# Altium schematic symbol library Archim.SCHLIB: 82 symbols
Pins are listed as number, name and electrical type; pins without a type are passive.

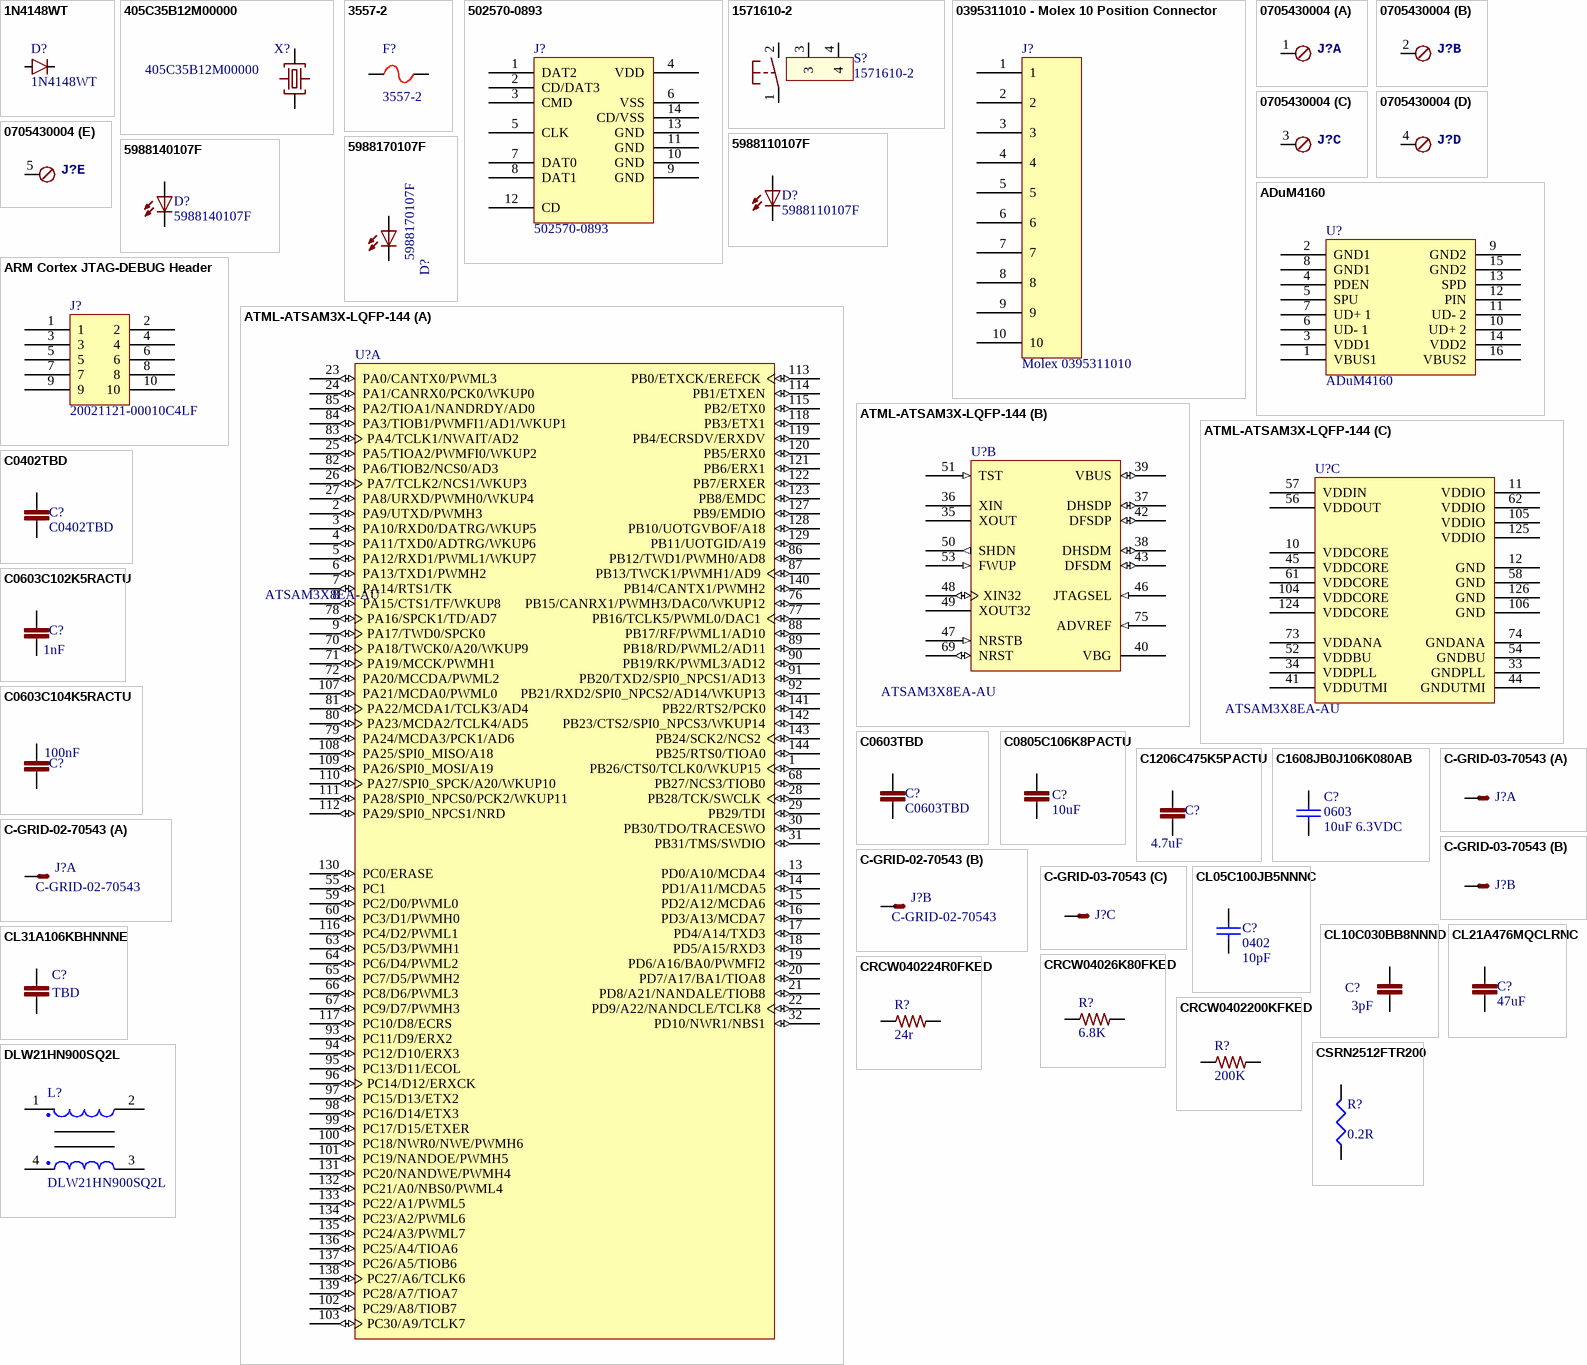
[diagram p0: symbols 1N4148WT to DLW21HN900SQ2L]

## 1N4148WT
designator D?
DIODE SOD523; LastRevisionNote: ImportComponents; Published: 23-Apr-2014; Publisher: UltiMachine; LastRevisionDate: 23-Apr-2014; Value: 1N4148WT
footprint SOD523
pins: A, C

## 405C35B12M00000
designator X?
Crystal 12MHz ±30ppm (Tol) ±50ppm (Stability) 13pF FUND 50Ohm; LastRevisionNote: ImportComponents; Published: 23-Apr-2014; Publisher: UltiMachine; LastRevisionDate: 23-Apr-2014; ManufacturerPartNumber: 405C35B12M00000
footprint CRYS320500
pins: 1 C1, 2 GND, 3 C2, 4 GND

## 3557-2
designator F?
FUSE PTH ATO; LastRevisionNote: ImportComponents; Published: 23-Apr-2014; Publisher: UltiMachine; LastRevisionDate: 23-Apr-2014; ManufacturerPartNumber: 3557-2
footprint 3557
pins: 1, 2

## 502570-0893
designator J?
microSD 502570-0893 Molex Part
footprint 502570-0893 - Molex SD (Molex SD Card Footprint 502570-0893)
pins: 1 DAT2, 2 CD/DAT3, 3 CMD, 4 VDD, 5 CLK, 6 VSS, 7 DAT0, 8 DAT1, 9 GND, 10 GND, 11 GND, 12 CD, 13 GND, 14 CD/VSS (power)

## 1571610-2
designator S?
SWTCH Momentary Washable; Manufacturer: TE; LastRevisionNote: Import; ComponentLink1URL: http://www.te.com/commerce/DocumentDelivery/DDEController?Action=srchrtrv&DocNm=1571610&DocType=Customer+Drawing&DocLang=English; ComponentLink1Description: Datasheet for B3F-31XX; Published: 23-Apr-2014; Publisher: UltiMachine; LastRevisionDate: 23-Apr-2014; ManufacturerPartNumber: 1571610-2; Supplier 1: Mouser; Supplier Part Number 1: 506-1571610-2
footprint B3F-31XX
pins: 1 P, 2 S, 3 (power), 4 (power)

## 0395311010 - Molex 10 Position Connector
designator J?, comment Molex 0395311010
MSBTV10 10 port connector same as RAMBo; Manufacture: Molex; Mounting Type: Through Hole; Part Number: 0395311010; Datasheet: http://www.molex.com/pdm_docs/sd/395311002_sd.pdf; Status: Active; Pin Count: 10 , 5.08mm pitch; Height: *; Lead Free: YES; Cost: 2.46000
footprint MSTBV10
pins: 1, 2, 3, 4, 5, 6, 7, 8, 9, 10

## 0705430004
designator J?  (value not drawn)
5pos Latching 2.54mm; LastRevisionNote: ImportComponents; Published: 23-Apr-2014; Publisher: UltiMachine; LastRevisionDate: 23-Apr-2014; ManufacturerPartNumber: 0705430004
footprint 5POL254
part A pins: 1
part B pins: 2 1
part C pins: 3 1
part D pins: 4 1
part E pins: 5 1

## 5988110107F
designator D?
LED 0805 Red; LastRevisionNote: ImportComponents; Published: 23-Apr-2014; Publisher: UltiMachine; LastRevisionDate: 23-Apr-2014; VALUE: 5988110107F
footprint LED2012120
pins: A, C

## 5988140107F
designator D?
LED 0805 Yellow; LastRevisionNote: ImportComponents; Published: 23-Apr-2014; Publisher: UltiMachine; LastRevisionDate: 23-Apr-2014; VALUE: 5988140107F
footprint LED2012120
pins: A, C

## 5988170107F
designator D?
LED 0805 Green; LastRevisionNote: ImportComponents; Published: 23-Apr-2014; Publisher: UltiMachine; LastRevisionDate: 23-Apr-2014; VALUE: 5988170107F
footprint LED2012120
pins: A, C

## ADuM4160
designator U?
USB Opto Isolator
footprint ADuM4160 (SOIC, 16-Leads, Body 10.30x7.50mm, Pitch 1.27mm, IPC Medium Density)
pins: 1 VBUS1, 2 GND1, 3 VDD1, 4 PDEN, 5 SPU, 6 UD- 1, 7 UD+ 1, 8 GND1, 9 GND2, 10 UD+ 2, 11 UD- 2, 12 PIN, 13 SPD, 14 VDD2, 15 GND2, 16 VBUS2

## ARM Cortex JTAG-DEBUG Header
designator J?, comment 20021121-00010C4LF
footprint FTSH-105-XX-X-DV (1.27mm pitch, 10 pin, terminal strip; vertical, SMT)
pins: 1, 2, 3, 4, 5, 6, 7, 8, 9, 10

## ATML-ATSAM3X-LQFP-144
designator U?, comment ATSAM3X8EA-AU
Atmel
footprint LQFP144_N (Thin QFP, 144-Leads, Body 20x20mm, Pitch 0.5mm, IPC Medium Density)
part A pins: 1 PB26/CTS0/TCLK0/WKUP15 (io), 2 PA9/UTXD/PWMH3 (io), 3 PA10/RXD0/DATRG/WKUP5 (io), 4 PA11/TXD0/ADTRG/WKUP6 (io), 5 PA12/RXD1/PWML1/WKUP7 (io), 6 PA13/TXD1/PWMH2 (io), 7 PA14/RTS1/TK (io), 8 PA15/CTS1/TF/WKUP8 (io), 9 PA17/TWD0/SPCK0 (io), 13 PD0/A10/MCDA4 (io), 14 PD1/A11/MCDA5 (io), 15 PD2/A12/MCDA6 (io), 16 PD3/A13/MCDA7 (io), 17 PD4/A14/TXD3 (io), 18 PD5/A15/RXD3 (io), 19 PD6/A16/BA0/PWMFI2 (io), 20 PD7/A17/BA1/TIOA8 (io), 21 PD8/A21/NANDALE/TIOB8 (io), 22 PD9/A22/NANDCLE/TCLK8 (io), 23 PA0/CANTX0/PWML3 (io), 24 PA1/CANRX0/PCK0/WKUP0 (io), 25 PA5/TIOA2/PWMFI0/WKUP2 (io), 26 PA7/TCLK2/NCS1/WKUP3 (io), 27 PA8/URXD/PWMH0/WKUP4 (io), 28 PB28/TCK/SWCLK (io), 29 PB29/TDI (io), 30 PB30/TDO/TRACESWO (io), 31 PB31/TMS/SWDIO (io), 32 PD10/NWR1/NBS1 (io), 55 PC1 (io), 59 PC2/D0/PWML0 (io), 60 PC3/D1/PWMH0 (io), 63 PC5/D3/PWMH1 (io), 64 PC6/D4/PWML2 (io), 65 PC7/D5/PWMH2 (io), 66 PC8/D6/PWML3 (io), 67 PC9/D7/PWMH3 (io), 68 PB27/NCS3/TIOB0 (io), 70 PA18/TWCK0/A20/WKUP9 (io), 71 PA19/MCCK/PWMH1 (io), 72 PA20/MCCDA/PWML2 (io), 76 PB15/CANRX1/PWMH3/DAC0/WKUP12 (io), 77 PB16/TCLK5/PWML0/DAC1 (io), 78 PA16/SPCK1/TD/AD7 (io), 79 PA24/MCDA3/PCK1/AD6 (io), 80 PA23/MCDA2/TCLK4/AD5 (io), 81 PA22/MCDA1/TCLK3/AD4 (io), 82 PA6/TIOB2/NCS0/AD3 (io), 83 PA4/TCLK1/NWAIT/AD2 (io), 84 PA3/TIOB1/PWMFI1/AD1/WKUP1 (io), 85 PA2/TIOA1/NANDRDY/AD0 (io), 86 PB12/TWD1/PWMH0/AD8 (io), 87 PB13/TWCK1/PWMH1/AD9 (io), 88 PB17/RF/PWML1/AD10 (io), 89 PB18/RD/PWML2/AD11 (io), 90 PB19/RK/PWML3/AD12 (io), 91 PB20/TXD2/SPI0_NPCS1/AD13 (io), 92 PB21/RXD2/SPI0_NPCS2/AD14/WKUP13 (io), 93 PC11/D9/ERX2 (io), 94 PC12/D10/ERX3 (io), 95 PC13/D11/ECOL (io), 96 PC14/D12/ERXCK (io), 97 PC15/D13/ETX2 (io), 98 PC16/D14/ETX3 (io), 99 PC17/D15/ETXER (io), 100 PC18/NWR0/NWE/PWMH6 (io), 101 PC19/NANDOE/PWMH5 (io), 102 PC29/A8/TIOB7 (io), 103 PC30/A9/TCLK7 (io), 107 PA21/MCDA0/PWML0 (io), 108 PA25/SPI0_MISO/A18 (io), 109 PA26/SPI0_MOSI/A19 (io), 110 PA27/SPI0_SPCK/A20/WKUP10 (io), 111 PA28/SPI0_NPCS0/PCK2/WKUP11 (io), 112 PA29/SPI0_NPCS1/NRD (io), 113 PB0/ETXCK/EREFCK (io), 114 PB1/ETXEN (io), 115 PB2/ETX0 (io), 116 PC4/D2/PWML1 (io), 117 PC10/D8/ECRS (io), 118 PB3/ETX1 (io), 119 PB4/ECRSDV/ERXDV (io), 120 PB5/ERX0 (io), 121 PB6/ERX1 (io), 122 PB7/ERXER (io), 123 PB8/EMDC (io), 127 PB9/EMDIO (io), 128 PB10/UOTGVBOF/A18 (io), 129 PB11/UOTGID/A19 (io), 130 PC0/ERASE (io), 131 PC20/NANDWE/PWMH4 (io), 132 PC21/A0/NBS0/PWML4 (io), 133 PC22/A1/PWML5 (io), 134 PC23/A2/PWML6 (io), 135 PC24/A3/PWML7 (io), 136 PC25/A4/TIOA6 (io), 137 PC26/A5/TIOB6 (io), 138 PC27/A6/TCLK6 (io), 139 PC28/A7/TIOA7 (io), 140 PB14/CANTX1/PWMH2 (io), 141 PB22/RTS2/PCK0 (io), 142 PB23/CTS2/SPI0_NPCS3/WKUP14 (io), 143 PB24/SCK2/NCS2 (io), 144 PB25/RTS0/TIOA0 (io)
part B pins: 35 XOUT "Main Oscillator Output", 36 XIN "Main Oscillator Input", 37 DHSDP (io) "USB High Speed Data +", 38 DHSDM (io) "USB High Speed Data -", 39 VBUS (io) "USB Bus Power Measurement Mini Host/Device", 40 VBG "Bias Voltage Reference", 42 DFSDP (io) "USB Full Speed Data +", 43 DFSDM (io) "USB Full Speed Data -", 46 JTAGSEL (in) "JTAG Selection", 47 NRSTB (in) "Asynchronous Microcontroller Reset", 48 XIN32 (io) "Slow Clock Oscillator Input", 49 XOUT32 "Slow Clock Oscillator Output", 50 SHDN (out) "Shut-Down Control", 51 TST (in) "Test Mode Select", 53 FWUP (in) "Force Wake-up Input", 69 NRST (io) "Microcontroller Reset", 75 ADVREF (in) "ADC and DAC Reference"
part C pins: 10 VDDCORE (power) "Core Chip Power Supply", 11 VDDIO (power) "Peripherals I/O Lines Power Supply", 12 GND (power) "Ground", 33 GNDPLL (power) "PLL A, UPLL and Oscillator Ground", 34 VDDPLL (power) "PLL A, UPLL and Oscillator Power Supply", 41 VDDUTMI (power) "USB UTMI+ Interface Power Supply", 44 GNDUTMI (power) "USB UTMI+ Interface Ground", 45 VDDCORE (power) "Core Chip Power Supply", 52 VDDBU (power) "Backup I/O Lines Power Supply", 54 GNDBU (power) "Backup Ground", 56 VDDOUT (power) "Voltage Regulator Output", 57 VDDIN (power) "Voltage Regulator, ADC and DAC Power", 58 GND (power) "Ground", 61 VDDCORE (power) "Core Chip Power Supply", 62 VDDIO (power) "Peripherals I/O Lines Power Supply", 73 VDDANA (power) "ADC and DAC Analog Power Supply", 74 GNDANA (power) "ADC and DAC Analog Ground", 104 VDDCORE (power) "Core Chip Power Supply", 105 VDDIO (power) "Peripherals I/O Lines Power Supply", 106 GND (power) "Ground", 124 VDDCORE (power) "Core Chip Power Supply", 125 VDDIO (power) "Peripherals I/O Lines Power Supply", 126 GND (power) "Ground"

## C0402TBD
designator C?
Capacitor Non Polarized; LastRevisionNote: ImportComponents; Published: 23-Apr-2014; Publisher: UltiMachine; LastRevisionDate: 23-Apr-2014; VALUE: C0402TBD
footprint C0402
signal-integrity model Model Name (Model Description)
simulation model Model Name (Model Description)
pins: 1, 2

## C0603C102K5RACTU
designator C?, comment 1nF
CAP CER 0603  1nF 50v 10% X7R; ManufacturerPartNumber: C0603C102K5RACTU; LastRevisionNote: ImportComponents; Published: 23-Apr-2014; Publisher: UltiMachine; VALUE: 1nF; LastRevisionDate: 23-Apr-2014
footprint C0603
signal-integrity model Model Name (Model Description)
simulation model Model Name (Model Description)
pins: 1, 2

## C0603C104K5RACTU
designator C?, comment 100nF
CAP CER 0603 100nF 50V 10% X7R; ManufacturerPartNumber: C0603C104K5RACTU; LastRevisionNote: ImportComponents; Published: 23-Apr-2014; Publisher: UltiMachine; LastRevisionDate: 23-Apr-2014; VALUE: 100nF
footprint C0603
signal-integrity model Model Name (Model Description)
simulation model Model Name (Model Description)
pins: 1, 2

## C0603TBD
designator C?
Capacitor Non Polarized; LastRevisionNote: ImportComponents; Published: 23-Apr-2014; Publisher: UltiMachine; LastRevisionDate: 23-Apr-2014; VALUE: C0603TBD
footprint C0603
signal-integrity model Model Name (Model Description)
simulation model Model Name (Model Description)
pins: 1, 2

## C0805C106K8PACTU
designator C?, comment 10uF
CAP CER 0805 10uF 10V 10% X5R; ManufacturerPartNumber: C0805C106K8PACTU; LastRevisionNote: ImportComponents; Published: 23-Apr-2014; Publisher: UltiMachine; LastRevisionDate: 23-Apr-2014; VALUE: 10uF
footprint C0805
signal-integrity model Model Name (Model Description)
simulation model Model Name (Model Description)
pins: 1, 2

## C1206C475K5PACTU
designator C?, comment 4.7uF
CAP CER 1206 4.7uF 50V 10% X5R; ManufacturerPartNumber: C1206C475K5PACTU; LastRevisionNote: ImportComponents; Published: 23-Apr-2014; Publisher: UltiMachine; LastRevisionDate: 23-Apr-2014; VALUE: 4.7uF
signal-integrity model Model Name (Model Description)
simulation model Model Name (Model Description)
footprint C1206
pins: 1, 2

## C1608JB0J106K080AB
designator C?, comment 0603  value 10uF 6.3VDC
CAP CER 10UF 6.3V 10% JB 0603; MFR Part #: C1608JB0J106K080AB; MFR: TDK; Voltage: 6.3VDC; Published: 10 - Dec - 2014; LatestRevisionDate: 10 - Dec - 2014; Component Type: Chip Capacitor; Part Description: CAP CER 10UF 6.3V 10% JB 0603; Mounting Type: SMT 0603; Datasheet: http://www.tdk.com/pdf/TDKMLCCCapRange.pdf; Height: 0.9mm; Tolerance: 10%; Digikey #: 445-11185-1-ND; PackageReference: 0402
simulation model CAP (Semiconductor Capacitor)
signal-integrity model Cap Semi
footprint C0603
pins: 1, 2

## C-GRID-02-70543
designator J?
Connector 2pos; LastRevisionNote: ImportComponents; Published: 23-Apr-2014; Publisher: UltiMachine; LastRevisionDate: 23-Apr-2014
footprint 70543-02
part A pins: 1 S
part B pins: 2 S

## C-GRID-03-70543
designator J?, comment Molex 70543-03  (value not drawn)
Connector 2pos 2.54mm locking; LastRevisionNote: ImportComponents; Published: 23-Apr-2014; Publisher: UltiMachine; LastRevisionDate: 23-Apr-2014
footprint 70543-03
part A pins: 1 S
part B pins: 2 S
part C pins: 3 S

## CL05C100JB5NNNC
designator C?, comment 0402  value 10pF
CAP CER 10PF 50V 5% NP0 0402; MFR Part #: CL05C100JB5NNNC; MFR: Samsung; Tolerance: 10%; Voltage: 50VDC; Published: 10 - Dec - 2014; LatestRevisionDate: 10 - Dec - 2014; LatestRevisionNote: Ultimachine Footprint Added; Publisher: Ultimachine; Component Type: Chip Capacitor; Part Description: CAP CER 10PF 50V 5% NP0 0402; Mounting Type: SMT 0402; Datasheet: http://www.samsungsem.com/kr/front/downloadcms.do?path=/kr/support/product-search/mlcc/__icsFiles/afieldfile/2014/11/05&fileName=S_CL05C100JB5NNNC.pdf; Height: 0.55mm; PackageReference: 0402
simulation model CAP (Semiconductor Capacitor)
signal-integrity model Cap Semi
footprint C0402
pins: 1, 2

## CL10C030BB8NNND
designator C?, comment 3pF
CAP CER 3PF 50V NP0 0603; ManufacturerPartNumber: CL10C030BB8NNND; LastRevisionNote: ImportComponents; Published: 23-Apr-2014; Publisher: UltiMachine; VALUE: 3pF; LastRevisionDate: 23-Apr-2014
footprint C0603
signal-integrity model Model Name (Model Description)
simulation model Model Name (Model Description)
pins: 1, 2

## CL21A476MQCLRNC
designator C?, comment 47uF
CAP CER 47UF 6.3V 20% X5R 0805; Manufacturer: Samsung; ManufacturerPartNumber: CL21A476MQCLRNC; LastRevisionNote: ImportComponents; Published: 10 - may 2015; Publisher: UltiMachine; LastRevisionDate: 10 may 2015; VALUE: 47uF
footprint C0805
signal-integrity model Model Name (Model Description)
simulation model Model Name (Model Description)
pins: 1, 2

## CL31A106KBHNNNE
designator C?, comment TBD
CAP CER 10UF 50V 10% X5R 1206; Manufacturer: Samsung; ManufacturerPartNumber: CL31A106KBHNNNE; LastRevisionNote: ImportComponents; Published: 25-mar-2015; Publisher: UltiMachine; LastRevisionDate: 25-mar-2015; VALUE: TBD
signal-integrity model Model Name (Model Description)
simulation model Model Name (Model Description)
footprint C1206
pins: 1, 2

## CRCW04026K80FKED
designator R?, comment 6.8K
RES SMD 6.8K OHM 1% 1/16W 0402; Manufacturer: Vishay Dale; ManufacturerPartNumber: CRCW04026K80FKED; LastRevisionNote: ImportComponents; Published: 23-Apr-2014; Publisher: UltiMachine; LastRevisionDate: 23-Apr-2014; Height: 0.4mm; VALUE: 6.8K
footprint R0402
signal-integrity model Model Name (Model Description)
simulation model Model Name (Model Description)
pins: 1, 2

## CRCW040224R0FKED
designator R?, comment 24r
Res Thick Film 0402 24 Ohm 1% 0.063W; ManufacturerPartNumber: CRCW0402200KFKED; LastRevisionNote: ImportComponents; Published: 23-Apr-2014; Publisher: UltiMachine; LastRevisionDate: 23-Apr-2014; VALUE: 24r
footprint R0402
signal-integrity model Model Name (Model Description)
simulation model Model Name (Model Description)
pins: 1, 2

## CRCW0402200KFKED
designator R?, comment 200K
RES 0402 200k 63mW 1%; ManufacturerPartNumber: CRCW0402200KFKED; LastRevisionNote: ImportComponents; Published: 23-Apr-2014; Publisher: UltiMachine; LastRevisionDate: 23-Apr-2014; VALUE: 200K
footprint R0402
signal-integrity model Model Name (Model Description)
simulation model Model Name (Model Description)
pins: 1, 2

## CSRN2512FTR200
designator R?, comment value 0.2R  (hidden comment: 2512)
RES SMD 0.2 OHM 1% 2W 2512; MFR: Stackpole ELectronics Inc; MFR #: CSRN2512FTR100; PackageReference: 2512; Digikey #: CSRN2512FTR100TR-ND; PDF: http://www.seielect.com/catalog/SEI-CSR_CSRN.pdf
simulation model RESISTOR (Resistor)
signal-integrity model Res
footprint 2512R-0.55 (2512 Resistor 6.35mm x 3.2mm x 0.55mm)
pins: 1, 2

## DLW21HN900SQ2L
designator L?
Common Mode Chokes Dual 90Ohm 100MHz 330mA 350mOhm DCR SMD
footprint DLW21HN900SQ2L
pins: 1 (power), 2 (power), 3 (power), 4 (power)

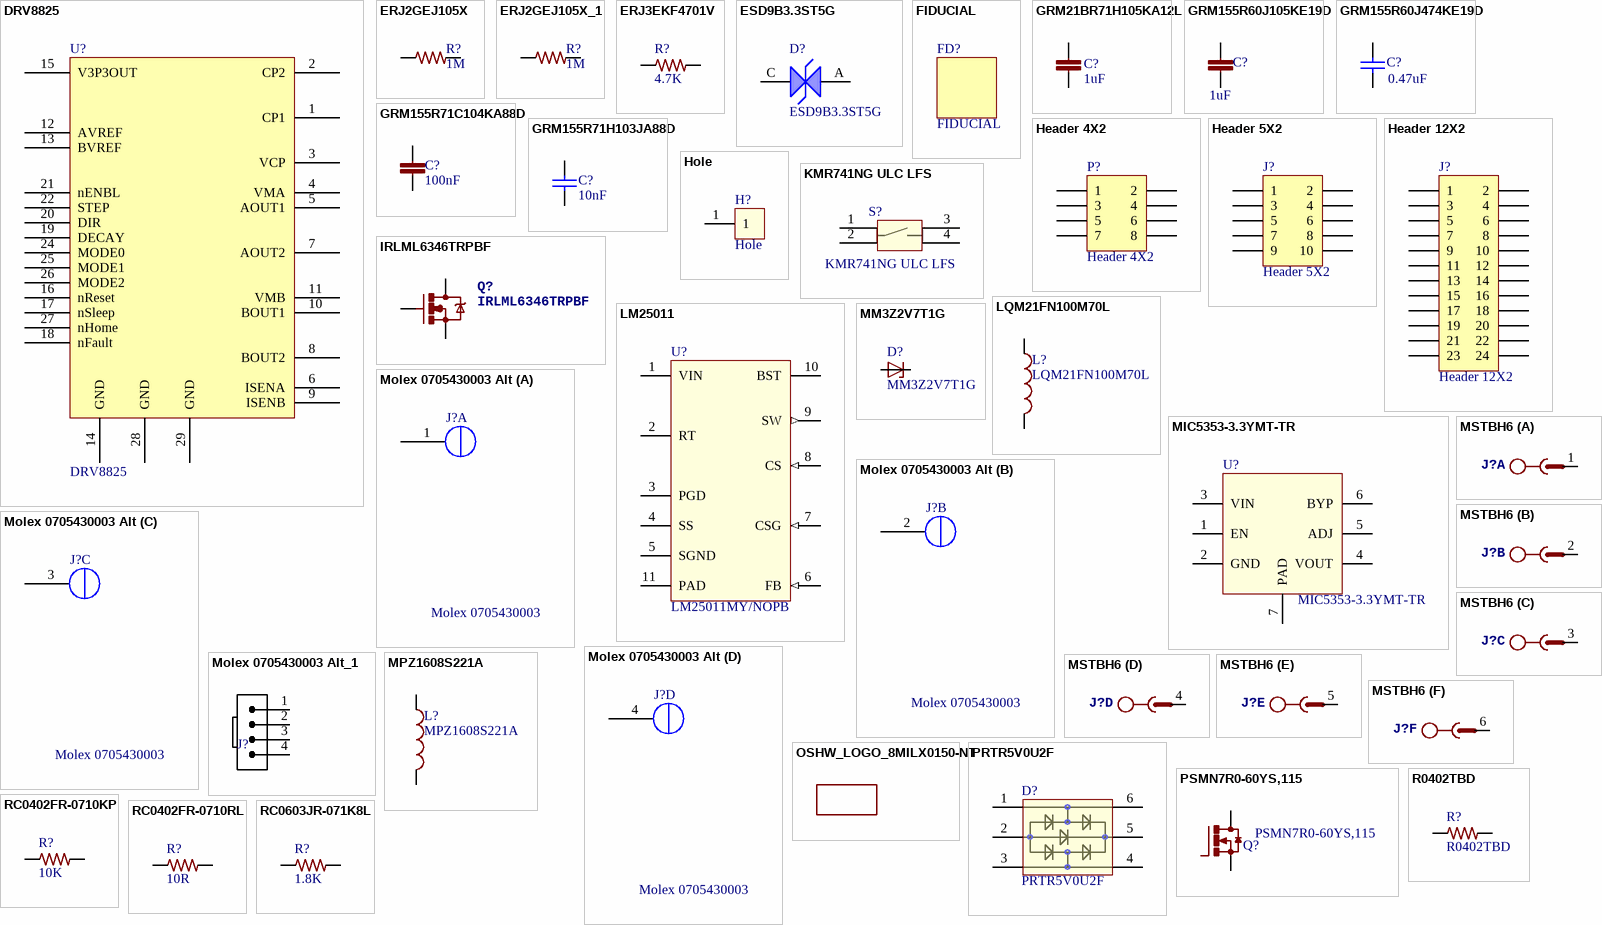
[diagram p1: symbols DRV8825 to RC0603JR-071K8L]

## DRV8825
designator U?
DRV8825 Ti Stepper Driver; Part Number: DRV8825PWPR; Manufacture: Texas Instruments; Mountining Type: SMD - Ti PowerPAD Package; Voltage: 8.2-45VDC; Cost (1000 qty): 2.25; Status: In-Production; Pins: 28 Pins and one Exposed Pad; Datasheet: http://www.ti.com/lit/gpn/drv8825; Height: 1.2mm; Tolerance: N/A; Type: Stepper Driver - Integrated Circuit; Lead Free: YES
footprint DRV8825PWPR (PowerPAD (HTSSOP) - PWP)
pins: 1 CP1, 2 CP2, 3 VCP, 4 VMA, 5 AOUT1, 6 ISENA, 7 AOUT2, 8 BOUT2, 9 ISENB, 10 BOUT1, 11 VMB, 12 AVREF, 13 BVREF, 14 GND, 15 V3P3OUT, 16 nReset, 17 nSleep, 18 nFault, 19 DECAY, 20 DIR, 21 nENBL, 22 STEP, 23 NC hidden, 24 MODE0, 25 MODE1, 26 MODE2, 27 nHome, 28 GND, 29 GND

## ERJ2GEJ105X
designator R?, comment 1M
RES 0402 1M 100mW 5%; ManufacturerPartNumber: ERJ2GEJ105X; LastRevisionNote: ImportComponents; Published: 23-Apr-2014; Publisher: UltiMachine; LastRevisionDate: 23-Apr-2014; VALUE: 1M
footprint R0402
signal-integrity model Model Name (Model Description)
simulation model Model Name (Model Description)
pins: 1, 2

## ERJ2GEJ105X_1
designator R?, comment 1M
RES 0402 1M 100mW 5%; ManufacturerPartNumber: ERJ2GEJ105X; LastRevisionNote: ImportComponents; Published: 23-Apr-2014; Publisher: UltiMachine; LastRevisionDate: 23-Apr-2014; VALUE: 1M
footprint R0402
signal-integrity model Model Name (Model Description)
simulation model Model Name (Model Description)
pins: 1, 2

## ERJ3EKF4701V
designator R?, comment 4.7K
RES 0603 4.7K 100mW 1%; ManufacturerPartNumber: ERJ3EKF4701V; LastRevisionNote: ImportComponents; Published: 23-Apr-2014; Publisher: UltiMachine; LastRevisionDate: 23-Apr-2014; VALUE: 4.7K
footprint R0603
signal-integrity model Model Name (Model Description)
simulation model Model Name (Model Description)
pins: 1, 2

## ESD9B3.3ST5G
designator D?
11.5 V 15 pF SMT Transient Voltage Suppressor - SOD-923
footprint SOD923-100X40-2N (SODFL, 2-Leads, Body 0.60x1.00mm, IPC Medium Density)
pins: A (power), C (power)

## FIDUCIAL
designator FD?
footprint FIDUCIAL-1X2
footprint FIDUCIAL-2x3-Panel

## GRM21BR71H105KA12L
designator C?, comment 1uF
CAP CER 0805 1uF 50V 10% X7R; ManufacturerPartNumber: GRM21BR71H105KA12L; LastRevisionNote: ImportComponents; Published: 23-Apr-2014; Publisher: UltiMachine; LastRevisionDate: 23-Apr-2014; VALUE: 1uF
footprint C0805
signal-integrity model Model Name (Model Description)
simulation model Model Name (Model Description)
pins: 1, 2

## GRM155R60J105KE19D
designator C?, comment 1uF
CAP CER 0402 1uF 6.3V 10% X5R; ManufacturerPartNumber: GRM155R60J105KE19D; LastRevisionNote: ImportComponents; Published: 23-Apr-2014; Publisher: UltiMachine; LastRevisionDate: 23-Apr-2014; VALUE: 1uF
footprint C0402
signal-integrity model Model Name (Model Description)
simulation model Model Name (Model Description)
pins: 1, 2

## GRM155R60J474KE19D
designator C?, comment value 0.47uF  (hidden comment: 0402)
0.47uF 6.3v C0402 - GRM155R60J474KE19D; MFR: Murata; Part Description: CAP CER 0.47UF 6.3V 10% X5R 0402; Tolerance: 10%; Voltage: 6.3VDC; Published: 10 - Dec - 2014; LatestRevisionDate: 10 - Dec - 2014; LatestRevisionNote: Ultimachine Footprint Added; Publisher: Ultimachine; Component Type: Chip Capacitor; MFR Part #: GRM155R60J474KE19D; Mounting Type: SMT 0402; Datasheet: http://search.murata.co.jp/Ceramy/image/img/A01X/G101/ENG/GRM155R60J474KE19-01.pdf; Height: 0.5 ±0.05mm; PackageReference: 0402
simulation model CAP (Semiconductor Capacitor)
signal-integrity model Cap Semi
footprint C0402
pins: 1, 2

## GRM155R71C104KA88D
designator C?, comment 100nF
CAP CER 0402 100nF 16V 10% X7R; ManufacturerPartNumber: GRM155R71C104KA88D; LastRevisionNote: ImportComponents; Published: 23-Apr-2014; Publisher: UltiMachine; VALUE: 100nF; LastRevisionDate: 23-Apr-2014
footprint C0402
signal-integrity model Model Name (Model Description)
simulation model Model Name (Model Description)
pins: 1, 2

## GRM155R71H103JA88D
designator C?, comment 10nF
CAP CER 10nF 50V X7R 0402; MFR Part #: GRM155R71H103JA88D; MFR: Murata; Part Description: CAP CER 10000PF 50V X7R 0402; Tolerance: 10%; Voltage: 6.3VDC; Value: 0.01uF 50V; Published: 10 - Dec - 2014; LatestRevisionDate: 10 - Dec - 2014; LatestRevisionNote: Ultimachine Footprint Added; Publisher: Ultimachine; Component Type: Chip Capacitor; Mounting Type: SMT 0402; Datasheet: http://search.murata.co.jp/Ceramy/image/img/A01X/G101/ENG/GRM155R71H103JA88-01.pdf; Height: 0.5 ±0.05mm; Digikey #: 490-7763-1-ND; PackageReference: 0402
simulation model CAP (Semiconductor Capacitor)
signal-integrity model Cap Semi
footprint C0402
pins: 1, 2

## Header 4X2
designator P?
Header, 4-Pin, Dual row; LatestRevisionDate: 17-Jul-2002; LatestRevisionNote: Re-released for DXP Platform.; Publisher: Altium Limited
footprint HDR2X4 (Connector; Header; 4x2 Position)
signal-integrity model Connector
pins: 1, 2, 3, 4, 5, 6, 7, 8

## Header 5X2
designator J?
Header, 5-Pin, Dual row; LatestRevisionDate: 17-Jul-2002; LatestRevisionNote: Re-released for DXP Platform.; Publisher: Altium Limited
footprint HDR2X5 (Connector; Header; 5x2 Position)
signal-integrity model Connector
pins: 1, 2, 3, 4, 5, 6, 7, 8, 9, 10

## Header 12X2
designator J?
Header, 12-Pin, Dual row; LatestRevisionDate: 17-Jul-2002; LatestRevisionNote: Re-released for DXP Platform.; Publisher: Altium Limited
footprint HDR2X12 (Connector; Header; 12x2 Position)
signal-integrity model Connector
pins: 1, 2, 3, 4, 5, 6, 7, 8, 9, 10, 11, 12, 13, 14, 15, 16, 17, 18, 19, 20, 21, 22, 23, 24

## Hole
designator H?  (no BOM)
footprint Wave_hole_3x7-singleSided
pins: 1 (power)

## IRLML6346TRPBF
designator Q?
Mosfet N-Channel 30V 3.4A 63mOhm; LastRevisionNote: ImportComponents; Published: 23-Apr-2014; Publisher: UltiMachine; LastRevisionDate: 23-Apr-2014; ManufacturerPartNumber: IRLML6346TRPBF
footprint SOT23-3
pins: 1 G, 2 S, 3 D

## KMR741NG ULC LFS
designator S?
SWITCH TACTILE SPST-NO 0.05A 12V
footprint KMR 6 Series (Tactile Switch SPST-NO Top Actuated Surface Mount)
pins: 1 (power), 2 (power), 3 (power), 4 (power)

## LM25011
designator U?, comment LM25011MY/NOPB
REG BUCK; Value: LM25011MY/NOPB
footprint VSSOP10 (TSSOP, 10-Leads, Body 3.15x3.00mm, Pitch 0.50mm, Thermal Pad 2.05.2x1.50.2mm, IPC High Density)
pins: 1 VIN (power), 2 RT (power), 3 PGD (power), 4 SS (power), 5 SGND (power), 6 FB (in), 7 CSG (in), 8 CS (in), 9 SW (out), 10 BST (power), 11 PAD (power)

## LQM21FN100M70L
designator L?
IND 0805 10uH 100mA 780 mOhm 20%; ManufacturerPartNumber: CBC2012T100M; LastRevisionNote: ImportComponents; Published: 23-Apr-2014; Publisher: UltiMachine; LastRevisionDate: 23-Apr-2014; Value: LQM21FN100M70L
footprint C0805
pins: 1, 2

## MIC5353-3.3YMT-TR
designator U?
LDO 3.3V 500mA - low ESR Cout
footprint TDFN1616-6LD-PL-1 (1.6mmx1.6mm)
pins: 1 EN (power), 2 GND (power), 3 VIN (power), 4 VOUT (power), 5 ADJ (power), 6 BYP (power), 7 PAD (power)

## MM3Z2V7T1G
designator D?
Z-Diode 2.7V 10mA 200mW; LastRevisionNote: ImportComponents; Published: 23-Apr-2014; Publisher: UltiMachine; LastRevisionDate: 23-Apr-2014
footprint SOD323-R
pins: A, C

## Molex 0705430003 Alt
designator J?, comment Molex 0705430003
Molex 4 Pin Clip Connector
footprint Molex 0705430003 (4 pin connector)
footprint 4POL254
footprint 4POL254 - 026604040
part A pins: 1 OUT2B
part B pins: 2 OUT2A
part C pins: 3 OUT1A
part D pins: 4 OUT1B

## Molex 0705430003 Alt_1
designator J?, comment Molex 0705430003  (value not drawn)
Molex 4 Pin Clip Connector
footprint 4POL254
pins: 1, 2, 3, 4

## MPZ1608S221A
designator L?
Ferrite; LastRevisionNote: ImportComponents; Published: 23-Apr-2014; Publisher: UltiMachine; LastRevisionDate: 23-Apr-2014; Value: MPZ1608S221A
footprint C0603
pins: 1, 2

## MSTBH6
designator J?  (value not drawn)
PHOENIX; LastRevisionNote: ImportComponents; Published: 23-Apr-2014; Publisher: UltiMachine; LastRevisionDate: 23-Apr-2014
footprint MSTBH6 (Pluggable terminal block-5.08mm pitch - Horizontal)
part A pins: 1
part B pins: 2 1
part C pins: 3 1
part D pins: 4 1
part E pins: 5
part F pins: 6

## OSHW_LOGO_8MILX0150-NT
designator LOGO?  (value not drawn)
LastRevisionNote: ImportComponents; Published: 23-Apr-2014; Publisher: UltiMachine; LastRevisionDate: 23-Apr-2014
footprint OSHW_8X150_NOTEXT

## PRTR5V0U2F
designator D?
Rail-to-rail ESD protection devices
footprint SOT886
pins: 1 (power), 2 (power), 3 (power), 4 (power), 5 (power), 6 (power)

## PSMN7R0-60YS,115
designator Q?
Mosfet N-channel 60V 356A 117W 9.3mOhms; LastRevisionNote: ImportComponents; Published: 23-Apr-2014; Publisher: UltiMachine; LastRevisionDate: 23-Apr-2014; ManufacturerPartNumber: PSMN7R0-60YS,115
footprint SOT669
pins: 1 S, 2 S, 3 S, 4 G, MB D

## R0402TBD
designator R?
Resistor; LastRevisionNote: ImportComponents; Published: 23-Apr-2014; Publisher: UltiMachine; LastRevisionDate: 23-Apr-2014; VALUE: R0402TBD
footprint R0402
signal-integrity model Model Name (Model Description)
simulation model Model Name (Model Description)
pins: 1, 2

## RC0402FR-0710KP
designator R?, comment 10K
RES SMD 10K OHM 1% 1/16W 0402; ManufacturerPartNumber: RC0402FR-0710KP; LastRevisionNote: ImportComponents; Published: 23-Apr-2014; Publisher: UltiMachine; LastRevisionDate: 23-Apr-2014; VALUE: 10K
footprint R0402
signal-integrity model Model Name (Model Description)
simulation model Model Name (Model Description)
pins: 1, 2

## RC0402FR-0710RL
designator R?, comment 10R
RES SMD 10 OHM 1% 1/16W 0402; ManufacturerPartNumber: RC0402FR-0710KP; LastRevisionNote: ImportComponents; Published: 23-Apr-2014; Publisher: UltiMachine; LastRevisionDate: 23-Apr-2014; VALUE: 10R
footprint R0402
signal-integrity model Model Name (Model Description)
simulation model Model Name (Model Description)
pins: 1, 2

## RC0603JR-071K8L
designator R?, comment 1.8K
RES 0603 1.8K 100mW 5%; ManufacturerPartNumber: RC0603JR-071K8L; LastRevisionNote: ImportComponents; Published: 23-Apr-2014; Publisher: UltiMachine; LastRevisionDate: 23-Apr-2014; VALUE: 1.8K
footprint R0603
signal-integrity model Model Name (Model Description)
simulation model Model Name (Model Description)
pins: 1, 2

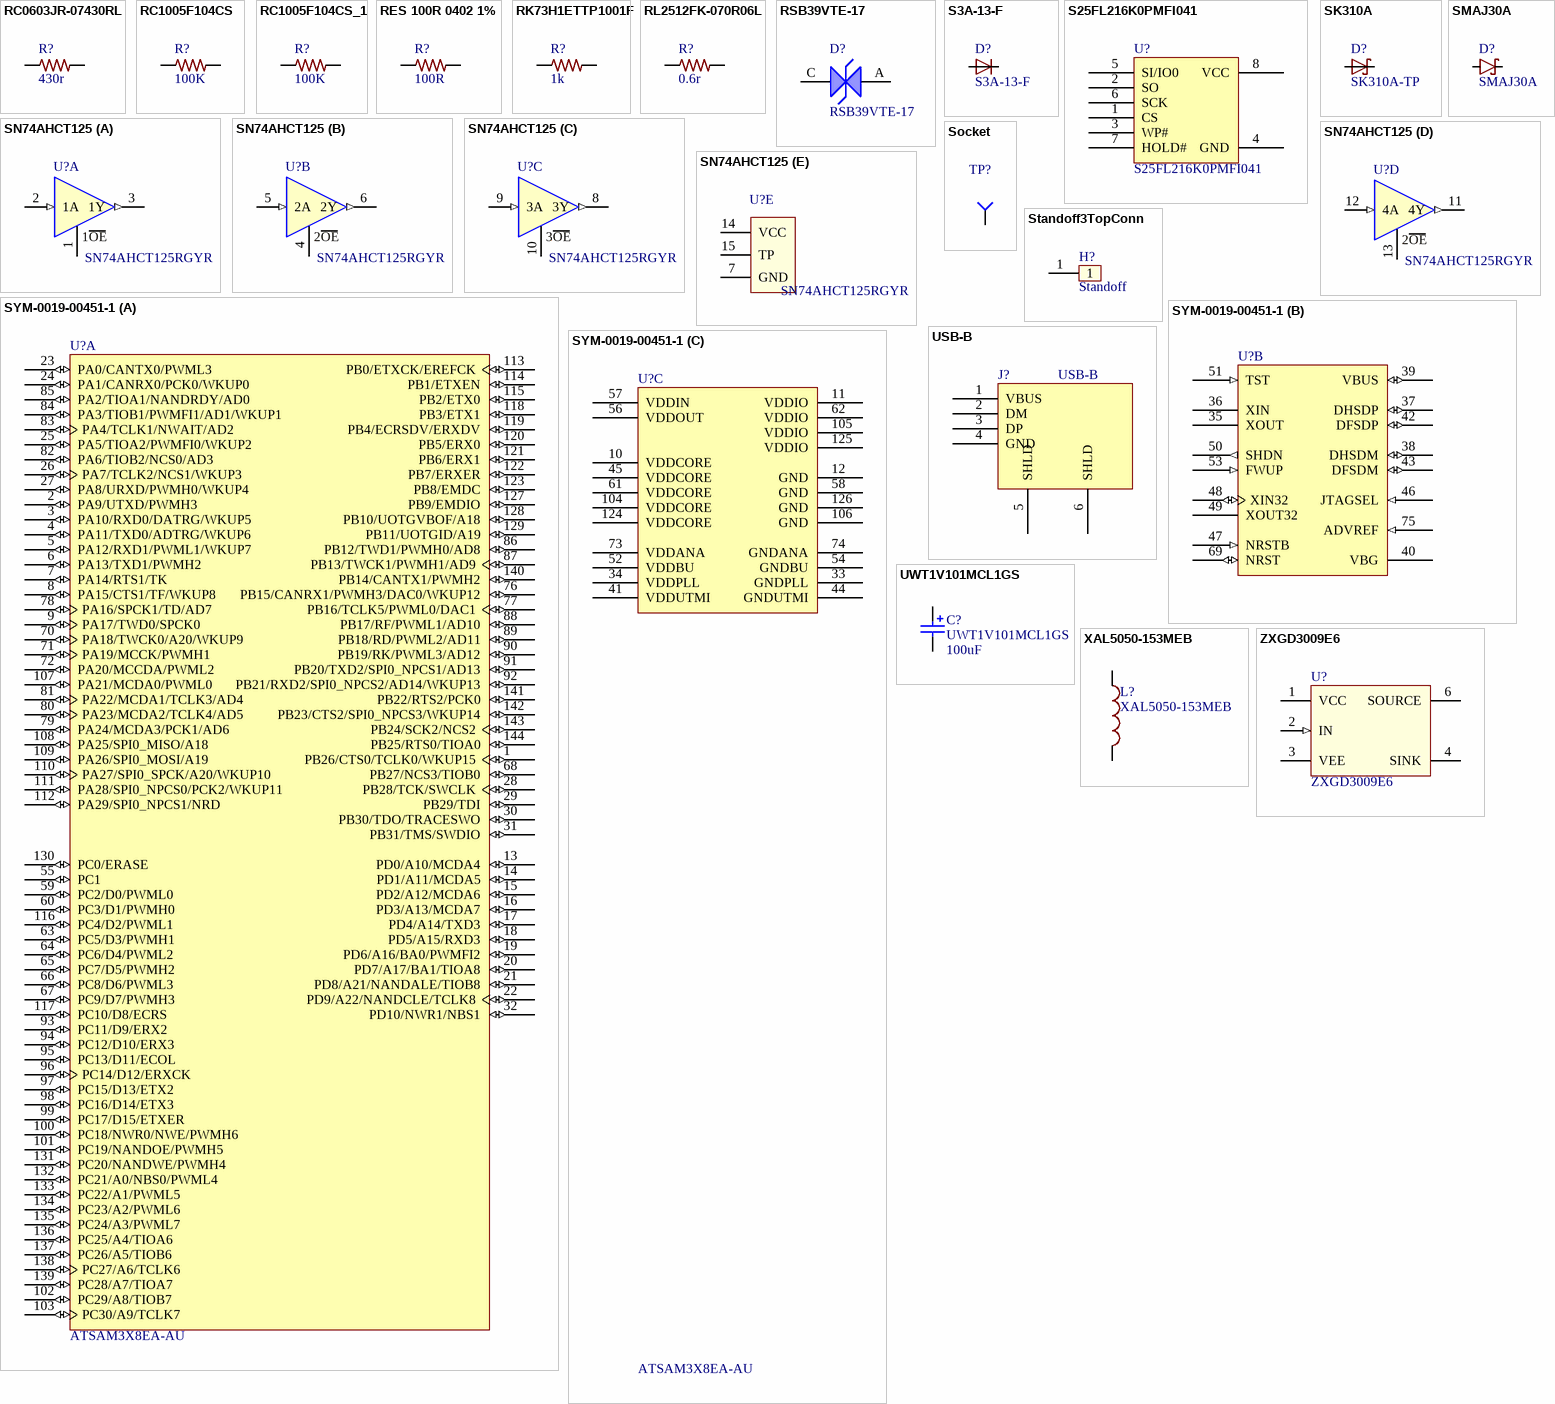
[diagram p2: symbols RC0603JR-07430RL to ZXGD3009E6]

## RC0603JR-07430RL
designator R?, comment 430r
RES 0603 0.1 W 430 Ohms 5% ±100 ppm/°C SMT; ManufacturerPartNumber: RC0603JR-07430RL; LastRevisionNote: ImportComponents; Published: 23-Apr-2014; Publisher: UltiMachine; LastRevisionDate: 23-Apr-2014; VALUE: 430r
footprint R0603
signal-integrity model Model Name (Model Description)
simulation model Model Name (Model Description)
pins: 1, 2

## RC1005F104CS
designator R?, comment 100K
RES SMD 100K OHM 1% 1/16W 0402; Manufacturer: Samsung; ManufacturerPartNumber: RC1005F104CS; LastRevisionNote: ImportComponents; Digilkey #: 1276-3432-1-ND; Published: 23-Apr-2014; Publisher: UltiMachine; LastRevisionDate: 23-Apr-2014; VALUE: 100K
footprint R0402
signal-integrity model Model Name (Model Description)
simulation model Model Name (Model Description)
pins: 1, 2

## RC1005F104CS_1
designator R?, comment 100K
RES SMD 100K OHM 1% 1/16W 0402; Manufacturer: Samsung; ManufacturerPartNumber: RC1005F104CS; LastRevisionNote: ImportComponents; Digilkey #: 1276-3432-1-ND; Published: 23-Apr-2014; Publisher: UltiMachine; LastRevisionDate: 23-Apr-2014; VALUE: 100K
footprint R0402
signal-integrity model Model Name (Model Description)
simulation model Model Name (Model Description)
pins: 1, 2

## RES 100R 0402 1%
designator R?, comment 100R
RES SMD 100 OHM 1% 1/16W 0402; LastRevisionNote: ImportComponents; Published: 23-Apr-2014; Publisher: UltiMachine; LastRevisionDate: 23-Apr-2014; VALUE: 100R
footprint R0402
pins: 1, 2

## RK73H1ETTP1001F
designator R?, comment 1k
RES 0402 1k 63mW 1%; LastRevisionNote: ImportComponents; Published: 23-Apr-2014; Publisher: UltiMachine; LastRevisionDate: 23-Apr-2014; VALUE: 1k
footprint R0402
signal-integrity model Model Name (Model Description)
simulation model Model Name (Model Description)
pins: 1, 2

## RL2512FK-070R06L
designator R?, comment 0.6r
RES 0.06 OHM 1W 1% 2512 SMD; ManufacturerPartNumber: RL2512FK-070R06L; LastRevisionNote: ImportComponents; Published: 23-Apr-2014; Publisher: UltiMachine; LastRevisionDate: 23-Apr-2014; VALUE: 0.6r
signal-integrity model Model Name (Model Description)
simulation model Model Name (Model Description)
footprint 2512R-0.55 (2512 Resistor 6.35mm x 3.2mm x 0.55mm)
pins: 1, 2

## RSB39VTE-17
designator D?
DIODE TVS
footprint SOD323-R
pins: A (power), C (power)

## S3A-13-F
designator D?
DIODE DO-214AB; LastRevisionNote: ImportComponents; Published: 23-Apr-2014; Publisher: UltiMachine; LastRevisionDate: 23-Apr-2014; Value: S3A-13-F
footprint DO-214AB
pins: A, C

## S25FL216K0PMFI041
designator U?
Manufacture: Spansion; Active: Yes; Manufacture Part #: S25FL216K0PMFI041; Mounting Type: SMD; Type: SOIC; Datasheet: http://www.spansion.com/Support/Datasheets/S25FL216K_00.pdf; Digikey Part NUmber: 1274-1052-ND; Price: $0.35
footprint S25FL216K0PMFI041 (SOIC, 8-Leads, Body 4.90x3.90mm, Pitch 1.27mm, IPC Medium Density)
pins: 1 CS, 2 SO, 3 WP#, 4 GND, 5 SI/IO0, 6 SCK, 7 HOLD#, 8 VCC

## SK310A
designator D?, comment SK310A-TP
DIODE Schottky 3A SMA; ManufacturerPartNumber: SK310A; LastRevisionNote: ImportComponents; LastRevisionDate: 23-Apr-2014; Published: 23-Apr-2014; Publisher: UltiMachine
footprint SMA-SM
pins: A, C

## SMAJ30A
designator D?
DIODE TVS 30V SMA; LastRevisionNote: ImportComponents; Published: 23-Apr-2014; Publisher: UltiMachine; LastRevisionDate: 23-Apr-2014; ManufacturerPartNumber: SMAJ30A
footprint SMA-SM
pins: A, C

## SN74AHCT125
designator U?, comment SN74AHCT125RGYR
Quadruple Bus Buffer Gates With 3-State Outputs 14-VQFN -40 to 125
footprint QFN50P350X350X100_RGY_S-PVQFN-N14 (QFN, 14-Leads, Body 3.50x3.50mm, Pitch 1.50mm/0.50mm, Thermal Pad 2.05x2.05mm, IPC High Density)
part A pins: 1 1OE (power), 2 1A (in), 3 1Y (out)
part B pins: 4 2OE (power), 5 2A (in), 6 2Y (out)
part C pins: 8 3Y (out), 9 3A (in), 10 3OE (power)
part D pins: 11 4Y (out), 12 4A (in), 13 4OE (power)
part E pins: 7 GND (power), 14 VCC (power), 15 TP (power)

## Socket
designator TP?, comment TP4  (value not drawn)
Socket; LatestRevisionDate: 17-Jul-2002; LatestRevisionNote: Re-released for DXP Platform.; Publisher: Altium Limited
signal-integrity model Connector
footprint TP-2
pins: 1

## Standoff3TopConn
designator H?, comment Standoff  (no BOM)
Mechanical - Top connect
footprint Standoff3mmTopConn
pins: 1 (power)

## SYM-0019-00451-1
designator U?, comment ATSAM3X8EA-AU
Atmel
footprint LQFP144_N (Thin QFP, 144-Leads, Body 20x20mm, Pitch 0.5mm, IPC Medium Density)
part A pins: 1 PB26/CTS0/TCLK0/WKUP15 (io), 2 PA9/UTXD/PWMH3 (io), 3 PA10/RXD0/DATRG/WKUP5 (io), 4 PA11/TXD0/ADTRG/WKUP6 (io), 5 PA12/RXD1/PWML1/WKUP7 (io), 6 PA13/TXD1/PWMH2 (io), 7 PA14/RTS1/TK (io), 8 PA15/CTS1/TF/WKUP8 (io), 9 PA17/TWD0/SPCK0 (io), 13 PD0/A10/MCDA4 (io), 14 PD1/A11/MCDA5 (io), 15 PD2/A12/MCDA6 (io), 16 PD3/A13/MCDA7 (io), 17 PD4/A14/TXD3 (io), 18 PD5/A15/RXD3 (io), 19 PD6/A16/BA0/PWMFI2 (io), 20 PD7/A17/BA1/TIOA8 (io), 21 PD8/A21/NANDALE/TIOB8 (io), 22 PD9/A22/NANDCLE/TCLK8 (io), 23 PA0/CANTX0/PWML3 (io), 24 PA1/CANRX0/PCK0/WKUP0 (io), 25 PA5/TIOA2/PWMFI0/WKUP2 (io), 26 PA7/TCLK2/NCS1/WKUP3 (io), 27 PA8/URXD/PWMH0/WKUP4 (io), 28 PB28/TCK/SWCLK (io), 29 PB29/TDI (io), 30 PB30/TDO/TRACESWO (io), 31 PB31/TMS/SWDIO (io), 32 PD10/NWR1/NBS1 (io), 55 PC1 (io), 59 PC2/D0/PWML0 (io), 60 PC3/D1/PWMH0 (io), 63 PC5/D3/PWMH1 (io), 64 PC6/D4/PWML2 (io), 65 PC7/D5/PWMH2 (io), 66 PC8/D6/PWML3 (io), 67 PC9/D7/PWMH3 (io), 68 PB27/NCS3/TIOB0 (io), 70 PA18/TWCK0/A20/WKUP9 (io), 71 PA19/MCCK/PWMH1 (io), 72 PA20/MCCDA/PWML2 (io), 76 PB15/CANRX1/PWMH3/DAC0/WKUP12 (io), 77 PB16/TCLK5/PWML0/DAC1 (io), 78 PA16/SPCK1/TD/AD7 (io), 79 PA24/MCDA3/PCK1/AD6 (io), 80 PA23/MCDA2/TCLK4/AD5 (io), 81 PA22/MCDA1/TCLK3/AD4 (io), 82 PA6/TIOB2/NCS0/AD3 (io), 83 PA4/TCLK1/NWAIT/AD2 (io), 84 PA3/TIOB1/PWMFI1/AD1/WKUP1 (io), 85 PA2/TIOA1/NANDRDY/AD0 (io), 86 PB12/TWD1/PWMH0/AD8 (io), 87 PB13/TWCK1/PWMH1/AD9 (io), 88 PB17/RF/PWML1/AD10 (io), 89 PB18/RD/PWML2/AD11 (io), 90 PB19/RK/PWML3/AD12 (io), 91 PB20/TXD2/SPI0_NPCS1/AD13 (io), 92 PB21/RXD2/SPI0_NPCS2/AD14/WKUP13 (io), 93 PC11/D9/ERX2 (io), 94 PC12/D10/ERX3 (io), 95 PC13/D11/ECOL (io), 96 PC14/D12/ERXCK (io), 97 PC15/D13/ETX2 (io), 98 PC16/D14/ETX3 (io), 99 PC17/D15/ETXER (io), 100 PC18/NWR0/NWE/PWMH6 (io), 101 PC19/NANDOE/PWMH5 (io), 102 PC29/A8/TIOB7 (io), 103 PC30/A9/TCLK7 (io), 107 PA21/MCDA0/PWML0 (io), 108 PA25/SPI0_MISO/A18 (io), 109 PA26/SPI0_MOSI/A19 (io), 110 PA27/SPI0_SPCK/A20/WKUP10 (io), 111 PA28/SPI0_NPCS0/PCK2/WKUP11 (io), 112 PA29/SPI0_NPCS1/NRD (io), 113 PB0/ETXCK/EREFCK (io), 114 PB1/ETXEN (io), 115 PB2/ETX0 (io), 116 PC4/D2/PWML1 (io), 117 PC10/D8/ECRS (io), 118 PB3/ETX1 (io), 119 PB4/ECRSDV/ERXDV (io), 120 PB5/ERX0 (io), 121 PB6/ERX1 (io), 122 PB7/ERXER (io), 123 PB8/EMDC (io), 127 PB9/EMDIO (io), 128 PB10/UOTGVBOF/A18 (io), 129 PB11/UOTGID/A19 (io), 130 PC0/ERASE (io), 131 PC20/NANDWE/PWMH4 (io), 132 PC21/A0/NBS0/PWML4 (io), 133 PC22/A1/PWML5 (io), 134 PC23/A2/PWML6 (io), 135 PC24/A3/PWML7 (io), 136 PC25/A4/TIOA6 (io), 137 PC26/A5/TIOB6 (io), 138 PC27/A6/TCLK6 (io), 139 PC28/A7/TIOA7 (io), 140 PB14/CANTX1/PWMH2 (io), 141 PB22/RTS2/PCK0 (io), 142 PB23/CTS2/SPI0_NPCS3/WKUP14 (io), 143 PB24/SCK2/NCS2 (io), 144 PB25/RTS0/TIOA0 (io)
part B pins: 35 XOUT "Main Oscillator Output", 36 XIN "Main Oscillator Input", 37 DHSDP (io) "USB High Speed Data +", 38 DHSDM (io) "USB High Speed Data -", 39 VBUS (io) "USB Bus Power Measurement Mini Host/Device", 40 VBG "Bias Voltage Reference", 42 DFSDP (io) "USB Full Speed Data +", 43 DFSDM (io) "USB Full Speed Data -", 46 JTAGSEL (in) "JTAG Selection", 47 NRSTB (in) "Asynchronous Microcontroller Reset", 48 XIN32 (io) "Slow Clock Oscillator Input", 49 XOUT32 "Slow Clock Oscillator Output", 50 SHDN (out) "Shut-Down Control", 51 TST (in) "Test Mode Select", 53 FWUP (in) "Force Wake-up Input", 69 NRST (io) "Microcontroller Reset", 75 ADVREF (in) "ADC and DAC Reference"
part C pins: 10 VDDCORE (power) "Core Chip Power Supply", 11 VDDIO (power) "Peripherals I/O Lines Power Supply", 12 GND (power) "Ground", 33 GNDPLL (power) "PLL A, UPLL and Oscillator Ground", 34 VDDPLL (power) "PLL A, UPLL and Oscillator Power Supply", 41 VDDUTMI (power) "USB UTMI+ Interface Power Supply", 44 GNDUTMI (power) "USB UTMI+ Interface Ground", 45 VDDCORE (power) "Core Chip Power Supply", 52 VDDBU (power) "Backup I/O Lines Power Supply", 54 GNDBU (power) "Backup Ground", 56 VDDOUT (power) "Voltage Regulator Output", 57 VDDIN (power) "Voltage Regulator, ADC and DAC Power", 58 GND (power) "Ground", 61 VDDCORE (power) "Core Chip Power Supply", 62 VDDIO (power) "Peripherals I/O Lines Power Supply", 73 VDDANA (power) "ADC and DAC Analog Power Supply", 74 GNDANA (power) "ADC and DAC Analog Ground", 104 VDDCORE (power) "Core Chip Power Supply", 105 VDDIO (power) "Peripherals I/O Lines Power Supply", 106 GND (power) "Ground", 124 VDDCORE (power) "Core Chip Power Supply", 125 VDDIO (power) "Peripherals I/O Lines Power Supply", 126 GND (power) "Ground"

## USB-B
designator J?
footprint PN61729
pins: 1 VBUS, 2 DM, 3 DP, 4 GND, 5 SHLD, 6 SHLD

## UWT1V101MCL1GS
designator C?  value 100uF
CAP ALUM 100UF 35V 20% SMD; Status: Active; Height: 7.70mm; Manufacture Part #: UWT1V101MCL1GS
simulation model CAP (Capacitor)
signal-integrity model Cap Pol
footprint CAP-ELEC-063063077 (6.3x6.3x7.7mm)
pins: 1, 2
1 alternate drawing of the same symbol

## XAL5050-153MEB
designator L?
IND 15uH 3.9A 20%; LastRevisionNote: ImportComponents; Published: 23-Apr-2014; Publisher: UltiMachine; LastRevisionDate: 23-Apr-2014; ManufacturerPartNumber: XAL5050-153MEB; Value: XAL5050-153MEB
footprint XAL50xx-153 (Precision Wire Wound Inductor, 2-Leads, Body 5.28x5.48mm, IPC High Density)
pins: 1, 2

## ZXGD3009E6
designator U?
MOSFET DRVR 3A 1-OUT High Speed Non-Inv6-Pin SOT-26 T/R
footprint SOT26P285X140-6L (SOT26, 6-Leads, Body 3.00x2.85mm, Pitch 0.95mm, IPC High Density)
pins: 1 VCC (power), 2 IN (in), 3 VEE (power), 4 SINK (power), 6 SOURCE (power)